# Altium schematic symbol library MPU_Supervisor_Sequencers_IC.SchLib: 1 symbol
Pins are listed as number, name and electrical type; pins without a type are passive.

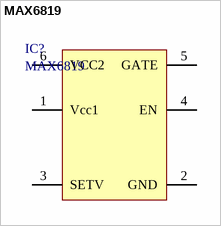
[diagram p0: symbol MAX6819]

## MAX6819
designator IC?
MAX6819 Power Supply Sequencer; Supplier 1: Farnell; Supplier Part Number 1: 2512698
footprint SOT95P280X145-6N (SOT23, 6-Leads, Body 2.90x2.80mm, Pitch 0.95mm, IPC Medium Density)
pins: 1 Vcc1, 2 GND, 3 SETV, 4 EN, 5 GATE, 6 VCC2